# Altium schematic symbol library nxp-bipolar.SchLib: 14 symbols
Pins are listed as number, name and electrical type; pins without a type are passive.

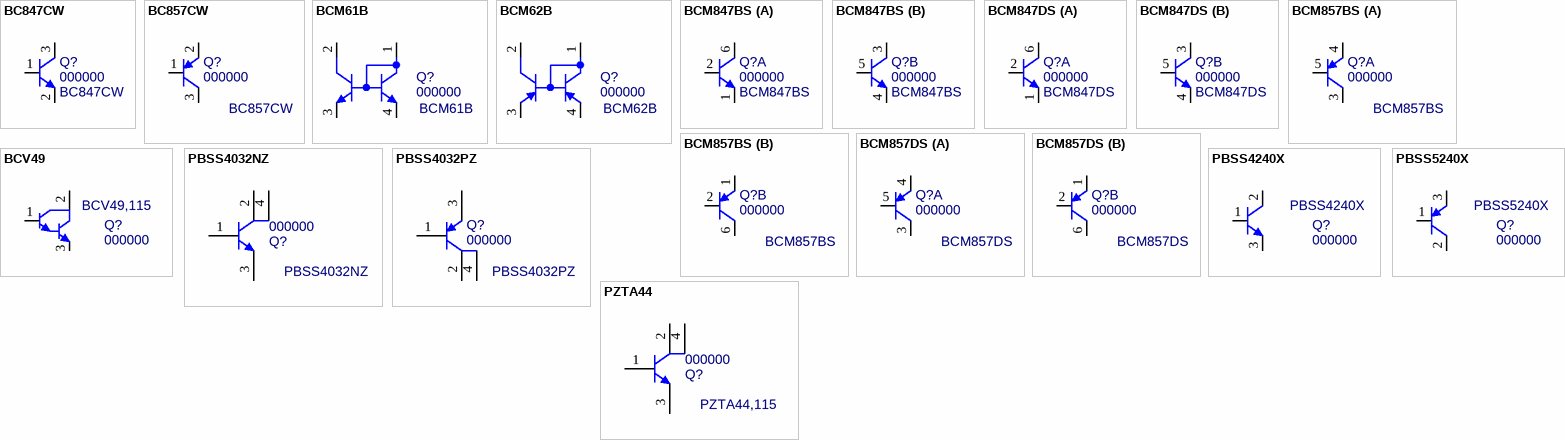
[diagram p0: symbols BC847CW to PZTA44]

## BC847CW
designator Q?, comment 000000  value BC847CW
NPN General-purpose Transistor; PN: 000000; Package: SOT-323; ExtraInfo: *
footprint SOT323 (SC-70/SOT323)
simulation model BC847CW
pins: 1 B, 2 E, 3 C

## BC857CW
designator Q?, comment 000000  value BC857CW
PNP Smal Signal Transistor; MF PN: BC857CW,115; MF: NXP; PN: 000000; Package: SOT323; ExtraInfo: *
signal-integrity model PNP
footprint SOT-323-M (6-Lead Plastic surface-mounted package, 0.65mm pitch, SOT363/SC-88)
pins: 1 B, 2 E, 3 C

## BCM61B
designator Q?, comment 000000  value BCM61B
NPN  Matched Pair Transistor; PN: 000000; Package: SOT-143B; ExtraInfo: *
simulation model BCM61B (Model Description)
footprint SOT143-M (SOT143, 4-Leads, Body 3.0x3.0mm (max), Pitch 0.95mm, IPC Medium Density)
pins: 1 C2, 2 C1, 3 E1, 4 E2

## BCM62B
designator Q?, comment 000000  value BCM62B
PNP  Matched Pair Transistor; PN: 000000; Package: SOT-143B; ExtraInfo: *
simulation model BCM62B (Model Description)
footprint SOT143-M (SOT23, 5-Leads, Body 3.0x3.0mm (max), Pitch 0.95mm, IPC Medium Density)
pins: 1 C2, 2 C1, 3 E1, 4 E2

## BCM847BS
designator Q?, comment 000000  value BCM847BS
NPN  Matched Pair Transistor; PN: 000000; Package: SOT363; ExtraInfo: *
footprint SOT363 (6-Lead Plastic surface-mounted package, 0.65mm pitch, SOT363/SC-88)
simulation model QBCM847DS (BCM847DS)
part A pins: 1 E1, 2 B1, 6 C1
part B pins: 3 C2, 4 E2, 5 B2

## BCM847DS
designator Q?, comment 000000  value BCM847DS
NPN  Matched Pair Transistor; PN: 000000; Package: SOT457; ExtraInfo: *
footprint SOT23-6-M (SOT23, 6-Leads, Body 3.0x3.0mm (max), Pitch 0.95mm, IPC Medium Density)
simulation model QBCM847DS (BCM847DS)
part A pins: 1 E1, 2 B1, 6 C1
part B pins: 3 C2, 4 E2, 5 B2

## BCM857BS
designator Q?, comment 000000  value BCM857BS
PNP Matched Pair Transistor; MF PN: BCM847BS,135; MF: NXP; PN: 000000; Package: SOT363; ExtraInfo: *
signal-integrity model PNP
simulation model QBCM857DS (BCM857DS)
footprint SOT363-M (6-Lead Plastic surface-mounted package, 0.65mm pitch, SOT363/SC-88)
part A pins: 3 C1, 4 E1, 5 B1
part B pins: 1 E2, 2 B2, 6 C2

## BCM857DS
designator Q?, comment 000000  value BCM857DS
PNP Matched Pair Transistor; PN: 000000; Package: SOT323; ExtraInfo: *
signal-integrity model PNP
footprint SOT23-6-M (SOT23, 6-Leads, Body 3.0x3.0mm (max), Pitch 0.95mm, IPC Medium Density)
simulation model QBCM857DS (BCM857DS)
part A pins: 3 C1, 4 E1, 5 B1
part B pins: 1 E2, 2 B2, 6 C2

## BCV49
designator Q?, comment 000000  value BCV49,115
NPN Darlington Bipolar Transistor; ExtraInfo: *; PN: 000000; Package: SOT89
signal-integrity model NPN
footprint SOT89 (SOT89, 3-Leads, Body 4.5x2.5mm (max), Pitch 1.50mm, Lead Span 4.0mm, IPC Medium Density)
simulation model BCV49 (Model Description)
pins: 1 B, 2 C, 3 E

## PBSS4032NZ
designator Q?, comment 000000  value PBSS4032NZ
30 V, 4.9 A NPN low VCEsat   (BISS) transistor; PN: 000000; Package: SOT-223; ExtraInfo: *
footprint SC-73 (SOT223, 4-Leads, Body 6.7x7.3mm (max), Pitch 2.30mm, IPC Medium Density)
simulation model QPBSS4032NZ (PBSS4032NZ)
pins: 1 B, 2 C, 3 E, 4 C

## PBSS4032PZ
designator Q?, comment 000000  value PBSS4032PZ
30 V, 4.4 A PNP low VCEsat   (BISS) transistor; PN: 000000; Package: SOT223; ExtraInfo: *
signal-integrity model PNP
footprint SC-73 (SOT223, 4-Leads, Body 6.7x7.3mm (max), Pitch 2.30mm, IPC Medium Density)
simulation model QPBSS4032PZ (PBSS4032PZ)
pins: 1 B, 2 C, 3 E, 4 C

## PBSS4240X
designator Q?, comment 000000  value PBSS4240X
40 V, 2 A NPN low VCEsat Transistor; ExtraInfo: *; PN: 000000; Package: SOT89
footprint SOT89 (SOT89, 3-Leads, Body 4.5x2.5mm (max), Pitch 1.50mm, Lead Span 4.0mm, IPC Medium Density)
simulation model PBSS4240X (NXP Semiconductors)
pins: 1 B, 2 C, 3 E

## PBSS5240X
designator Q?, comment 000000  value PBSS5240X
40 V, 2 A PNP low VCEsat Transistor; ExtraInfo: *; PN: 000000; Package: SOT89
footprint SOT89 (SOT89, 3-Leads, Body 4.5x2.5mm (max), Pitch 1.50mm, Lead Span 4.0mm, IPC Medium Density)
simulation model QPBSS5240X (PBSS5240X)
pins: 1 B, 2 C, 3 E

## PZTA44
designator Q?, comment 000000  value PZTA44,115
400V, 300mA, NPN Transistor; MF: NXP; PN: 000000; Package: SOT-223; ExtraInfo: *; MF PN: *
footprint SC-73 (SOT223, 4-Leads, Body 6.7x7.3mm (max), Pitch 2.30mm, IPC Medium Density)
simulation model QPBSS4032NZ (PBSS4032NZ)
footprint SC-73-HV (SOT223, 4-Leads, Body 6.7x7.3mm (max), Pitch 2.30mm, IPC High Voltage)
pins: 1 B, 2 C, 3 E, 4 C